# EAGLE library part MAX86141ENP+T (library MAX86141ENP+T)
Biometric Sensors Optical AFE Optimized for HR on Wrist Applications. Source: Datasheet <https://ms.componentsearchengine.com/Datasheets/2/MAX86141ENP T.pdf>
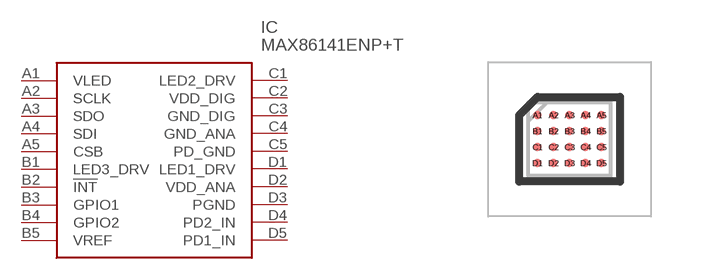
[diagram p0: symbol with the pads of BGA20C40P5X4_205X185X50; footprint BGA20C40P5X4_205X185X50]

Designator prefix IC

## MAX86141ENP+T (Description: Biometric Sensors Optical AFE Optimized for HR on Wrist Applications.; Height: 0.5mm; Manufacturer_Name: Analog Devices; Manufacturer_Part_Number: MAX86141ENP+T; Mouser_Part_Number: 700-MAX86141ENP+T; Mouser_Price-Stock: https://www.mouser.co.uk/ProductDetail/Maxim-Integrated/MAX86141ENP%2bT?qs=1mbolxNpo8eXAkUx4%252BsdhQ%3D%3D)  [BGA20C40P5X4_205X185X50]
A1  VLED
A2  SCLK
A3  SDO
A4  SDI
A5  CSB
B1  LED3_DRV
B2  !INT
B3  GPIO1
B4  GPIO2
B5  VREF
C1  LED2_DRV
C2  VDD_DIG
C3  GND_DIG
C4  GND_ANA
C5  PD_GND
D1  LED1_DRV
D2  VDD_ANA
D3  PGND
D4  PD2_IN
D5  PD1_IN

## Footprint BGA20C40P5X4_205X185X50 (pad centres in mm)
N201A2+1
smd 0.216 x 0.216: A1 -0.8,0.6; A2 -0.4,0.6; A3 0,0.6; A4 0.4,0.6; A5 0.8,0.6; B1 -0.8,0.2; B2 -0.4,0.2; B3 0,0.2; B4 0.4,0.2; B5 0.8,0.2; C1 -0.8,-0.2; C2 -0.4,-0.2; C3 0,-0.2; C4 0.4,-0.2; C5 0.8,-0.2; D1 -0.8,-0.6; D2 -0.4,-0.6; D3 0,-0.6; D4 0.4,-0.6; D5 0.8,-0.6